# Altium schematic symbol library MPLibs.SchLib: 9 symbols
Pins are listed as number, name and electrical type; pins without a type are passive.

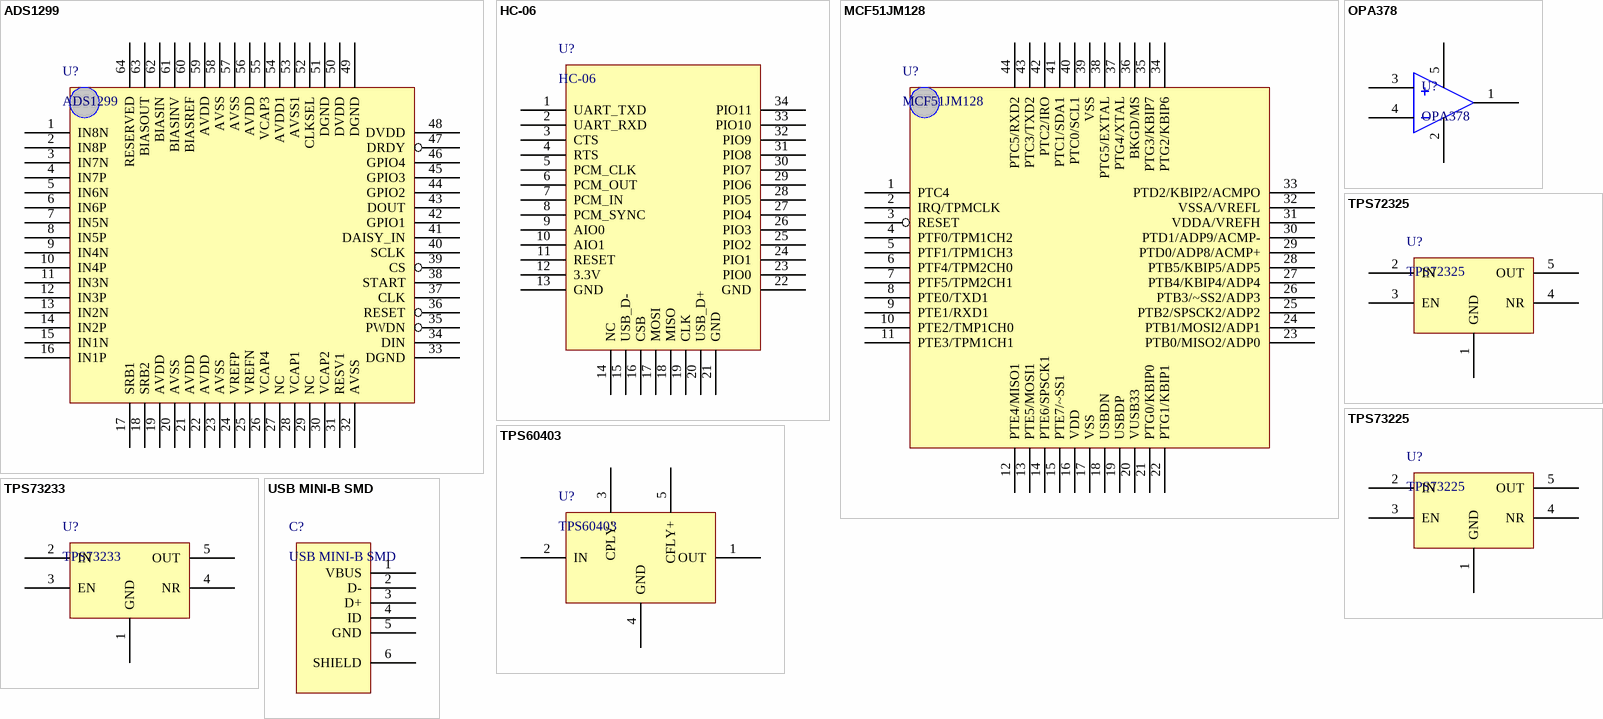
[diagram p0: symbols ADS1299 to USB MINI-B SMD]

## ADS1299
designator U?
Low-Noise, 8-Channel, 24-Bit Analog Front-End for Biopotential Measurements
footprint TQFP64_N (64-Pin Thin Quad Flat Pack 0.5 mm Pitch, IPC Medium Density)
pins: 1 IN8N, 2 IN8P, 3 IN7N, 4 IN7P, 5 IN6N, 6 IN6P, 7 IN5N, 8 IN5P, 9 IN4N, 10 IN4P, 11 IN3N, 12 IN3P, 13 IN2N, 14 IN2P, 15 IN1N, 16 IN1P, 17 SRB1, 18 SRB2, 19 AVDD, 20 AVSS, 21 AVDD, 22 AVDD, 23 AVSS, 24 VREFP, 25 VREFN, 26 VCAP4, 27 NC, 28 VCAP1, 29 NC, 30 VCAP2, 31 RESV1, 32 AVSS, 33 DGND, 34 DIN, 35 PWDN, 36 RESET, 37 CLK, 38 START, 39 CS, 40 SCLK, 41 DAISY_IN, 42 GPIO1, 43 DOUT, 44 GPIO2, 45 GPIO3, 46 GPIO4, 47 DRDY, 48 DVDD, 49 DGND, 50 DVDD, 51 DGND, 52 CLKSEL, 53 AVSS1, 54 AVDD1, 55 VCAP3, 56 AVDD, 57 AVSS, 58 AVSS, 59 AVDD, 60 BIASREF, 61 BIASINV, 62 BIASIN, 63 BIASOUT, 64 RESERVED

## HC-06
designator U?
HC-06 Bluetooth Modul
footprint BT HC-06
pins: 1 UART_TXD, 2 UART_RXD, 3 CTS, 4 RTS, 5 PCM_CLK, 6 PCM_OUT, 7 PCM_IN, 8 PCM_SYNC, 9 AIO0, 10 AIO1, 11 RESET, 12 3.3V, 13 GND, 14 NC, 15 USB_D-, 16 CSB, 17 MOSI, 18 MISO, 19 CLK, 20 USB_D+, 21 GND, 22 GND, 23 PIO0, 24 PIO1, 25 PIO2, 26 PIO3, 27 PIO4, 28 PIO5, 29 PIO6, 30 PIO7, 31 PIO8, 32 PIO9, 33 PIO10, 34 PIO11

## MCF51JM128
designator U?
Freescale Microcontroller (44-Pin)
footprint TQFP44_M (44-Pin Thin Plastic Quad Flat Pack 0.8 mm Pitch, IPC Low Density)
pins: 1 PTC4, 2 IRQ/TPMCLK, 3 RESET, 4 PTF0/TPM1CH2, 5 PTF1/TPM1CH3, 6 PTF4/TPM2CH0, 7 PTF5/TPM2CH1, 8 PTE0/TXD1, 9 PTE1/RXD1, 10 PTE2/TMP1CH0, 11 PTE3/TPM1CH1, 12 PTE4/MISO1, 13 PTE5/MOSI1, 14 PTE6/SPSCK1, 15 PTE7/~SS1, 16 VDD, 17 VSS, 18 USBDN, 19 USBDP, 20 VUSB33, 21 PTG0/KBIP0, 22 PTG1/KBIP1, 23 PTB0/MISO2/ADP0, 24 PTB1/MOSI2/ADP1, 25 PTB2/SPSCK2/ADP2, 26 PTB3/~SS2/ADP3, 27 PTB4/KBIP4/ADP4, 28 PTB5/KBIP5/ADP5, 29 PTD0/ADP8/ACMP+, 30 PTD1/ADP9/ACMP-, 31 VDDA/VREFH, 32 VSSA/VREFL, 33 PTD2/KBIP2/ACMPO, 34 PTG2/KBIP6, 35 PTG3/KBIP7, 36 BKGD/MS, 37 PTG4/XTAL, 38 PTG5/EXTAL, 39 VSS, 40 PTC0/SCL1, 41 PTC1/SDA1, 42 PTC2/IRO, 43 PTC3/TXD2, 44 PTC5/RXD2

## OPA378
designator U?
Low-Noise, 900kHz, RRIO, Precision Operational Amplifier, Zerø-Drift Series
footprint SOT23-5_M (Footprint not found)
pins: 1 Out, 2 V-, 3 IN+, 4 IN-, 5 V+

## TPS60403
designator U?
60mA Charge Pump Voltage Inverter with Fixed 250kHz Operation
footprint SOT23-5_M (Footprint not found)
pins: 1 OUT, 2 IN, 3 CPLY-, 4 GND, 5 CFLY+

## TPS72325
designator U?
Single Output LDO, 200mA, Fixed(2.5V), High PSRR, Low Noise
footprint SOT23-5_M (Footprint not found)
pins: 1 GND, 2 IN, 3 EN, 4 NR, 5 OUT

## TPS73225
designator U?
Single Output LDO, 250mA, Fixed(2.5V), Fast Transient Response, Reverse Current Protection
footprint SOT23-5_M (Footprint not found)
pins: 1 GND, 2 IN, 3 EN, 4 NR, 5 OUT

## TPS73233
designator U?
Single Output LDO, 250mA, Fixed(3.3V), Fast Transient Response, Reverse Current Protection
footprint SOT23-5_M (Footprint not found)
pins: 1 GND, 2 IN, 3 EN, 4 NR, 5 OUT

## USB MINI-B SMD
designator C?
footprint USB MINI-B
pins: 1 VBUS, 2 D-, 3 D+, 4 ID, 5 GND, 6 SHIELD